# EAGLE library part PICOLOCK_12 (library DubSat1 Components)
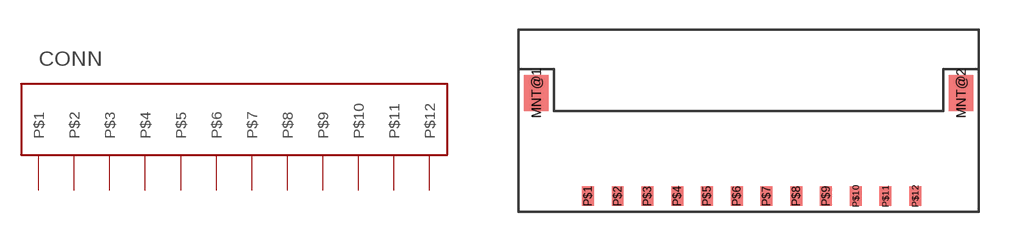
[diagram p20: symbol with the pads of PICOLOCK_12; footprint PICOLOCK_12]

Designator prefix CONN

## PICOLOCK_12PICOLOCK_12  [PICOLOCK_12]
P$1  P$1
P$2  P$2
P$3  P$3
P$4  P$4
P$5  P$5
P$6  P$6
P$7  P$7
P$8  P$8
P$9  P$9
P$10  P$10
P$11  P$11
P$12  P$12

## Footprint PICOLOCK_12 (pad centres in mm)
smd 1.25 x 1.8: MNT@1 -2.605,5.2; MNT@2 18.805,5.2
smd 0.6 x 1: P$1 0,0; P$2 1.5,0; P$3 3,0; P$4 4.5,0; P$5 6,0; P$6 7.5,0; P$7 9,0; P$8 10.5,0; P$9 12,0; P$10 13.5,0; P$11 15,0; P$12 16.5,0